# EAGLE library part PARTICLE_SIM-NANO-4FF (library m2_feather_interposer)
SIM NANO 4FF
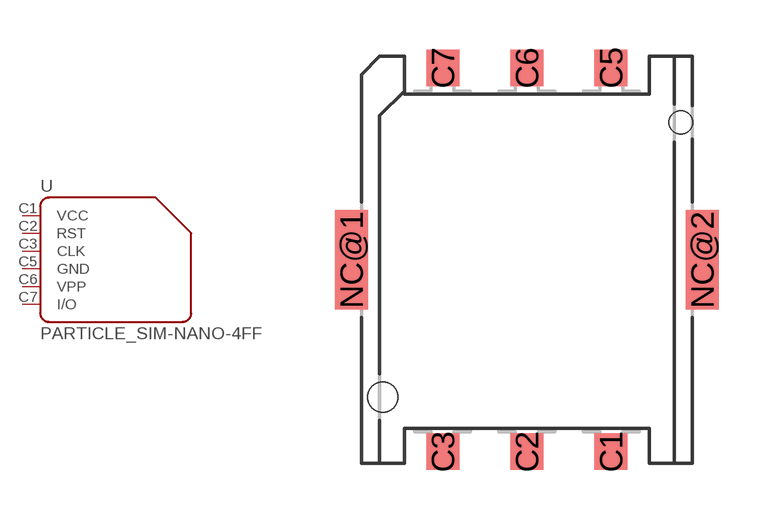
[diagram p0: symbol with the pads of PARTICLE_GCT-SIM8100; footprint PARTICLE_GCT-SIM8100]

Designator prefix -

## PARTICLE_SIM-NANO-4FF  [PARTICLE_GCT-SIM8100]
C1  VCC  pas
C2  RST  pas
C3  CLK  pas
C5  GND  pas
C6  VPP  pas
C7  I/O  pas

## Footprint PARTICLE_GCT-SIM8100 (pad centres in mm)
smd 1 x 1.1: C1 2.54,-5.8; C2 0,-5.8; C3 -2.54,-5.8; C5 2.54,5.8; C6 0,5.8; C7 -2.54,5.8
smd 1 x 3: NC@1 -5.3,0; NC@2 5.3,0
hole 0.7 at 4.65,4.15
hole 0.9 at -4.35,-4.15